# Altium schematic symbol library Texas_Instruments_TPS22942DCKRG4.SchLib: 1 symbol
Pins are listed as number, name and electrical type; pins without a type are passive.

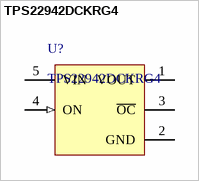
[diagram p0: symbol TPS22942DCKRG4]

## TPS22942DCKRG4
designator U?
Low-Input Voltage 100 mA Current Limited Load Switch with Shut-off and Auto-Restart Feature, 400 mOhms rDS(On), -40 to 85 degC, 5-pin SC70 (DCK), Green (RoHS & no Sb/Br); Manufacturer: Texas Instruments; Vin(Min)(V): 1.62; SubFamily: Current Limited Switch; Vin(Max)(V): 5.5; Adjustable Current Limit(Min)(A): 0.1; Iq(Typ)(uA): 40; rDS(on) per FET(Typ)(mOhms): 400; No Fault Reporting: TRUE; Number of FETs: 1; Enable/Shutdown: Active Low; Eco-Plan: Green (RoHS & no Sb/Br); PartNumber: TPS22942DCKRG4; ComponentLink1Description: Datasheet; DatasheetVersion: SLVS832C; ComponentLink1URL: http://www.ti.com/general/docs/lit/getliterature.tsp?genericPartNumber=TPS22942&fileType=pdf; Code_JEDEC: MO-203-AA; PackageVersion: revG, Jan-2007; Over Current Reporting: TRUE; Single: TRUE; Mounting Technology: Surface Mount; PackageReference: DCK5; PackageDescription: 5-Pin Plastic Small-Outline Package, 2 x 1.3 mm Body, 0.65 mm Pitch, 2.1 mm Lead Span
footprint DCK5_N
footprint DCK5_M
footprint DCK5_L
pins: 1 VOUT (power) "Switch output: output of the power switch", 2 GND (power) "Ground", 3 ~{OC} (oc) "Over current output flag: active LOW, open drain output that indicates an over current, supply under voltage, or over temperature state.", 4 ON (in) "ON control input", 5 VIN (power) "Supply input: input to the power switch and the supply voltage for the IC"